# EAGLE library part 6SLX9TQG144 (library faout)
Xilinx FPGA: 6SLX9TQG144
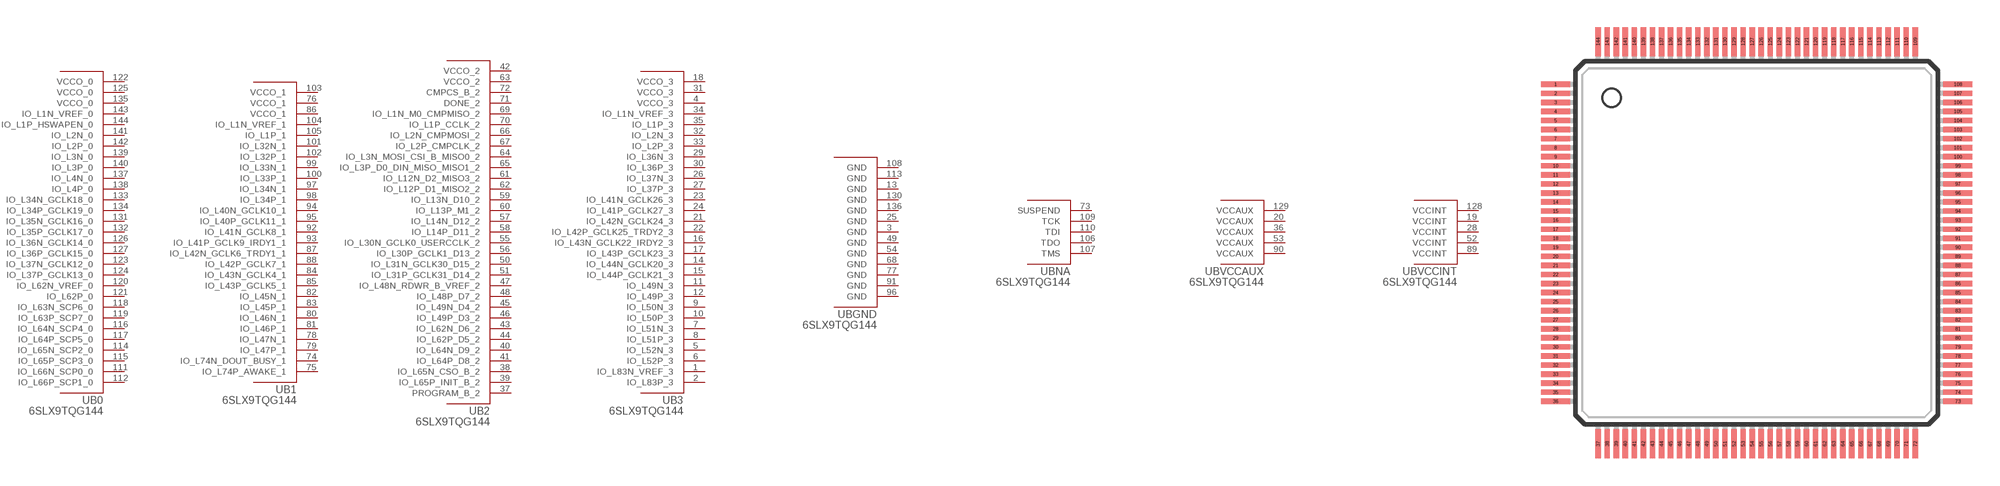
[diagram p1: symbol with the pads of TQ144; footprint TQ144]

Designator prefix U; gates B0=6SLX9TQG144_0 B1=6SLX9TQG144_1 B2=6SLX9TQG144_2 B3=6SLX9TQG144_3 BGND=6SLX9TQG144_GND BNA=6SLX9TQG144_NA BVCCAUX=6SLX9TQG144_VCCAUX BVCCINT=6SLX9TQG144_VCCINT

## 6SLX9TQG144  [TQ144]
1  B3:IO_L83N_VREF_3
2  B3:IO_L83P_3
3  BGND:GND  pwr
4  B3:VCCO_3  in
5  B3:IO_L52N_3
6  B3:IO_L52P_3
7  B3:IO_L51N_3
8  B3:IO_L51P_3
9  B3:IO_L50N_3
10  B3:IO_L50P_3
11  B3:IO_L49N_3
12  B3:IO_L49P_3
13  BGND:GND  pwr
14  B3:IO_L44N_GCLK20_3
15  B3:IO_L44P_GCLK21_3
16  B3:IO_L43N_GCLK22_IRDY2_3
17  B3:IO_L43P_GCLK23_3
18  B3:VCCO_3  in
19  BVCCINT:VCCINT  in
20  BVCCAUX:VCCAUX  in
21  B3:IO_L42N_GCLK24_3
22  B3:IO_L42P_GCLK25_TRDY2_3
23  B3:IO_L41N_GCLK26_3
24  B3:IO_L41P_GCLK27_3
25  BGND:GND  pwr
26  B3:IO_L37N_3
27  B3:IO_L37P_3
28  BVCCINT:VCCINT  in
29  B3:IO_L36N_3
30  B3:IO_L36P_3
31  B3:VCCO_3  in
32  B3:IO_L2N_3
33  B3:IO_L2P_3
34  B3:IO_L1N_VREF_3
35  B3:IO_L1P_3
36  BVCCAUX:VCCAUX  in
37  B2:PROGRAM_B_2  in
38  B2:IO_L65N_CSO_B_2
39  B2:IO_L65P_INIT_B_2
40  B2:IO_L64N_D9_2
41  B2:IO_L64P_D8_2
42  B2:VCCO_2  in
43  B2:IO_L62N_D6_2
44  B2:IO_L62P_D5_2
45  B2:IO_L49N_D4_2
46  B2:IO_L49P_D3_2
47  B2:IO_L48N_RDWR_B_VREF_2
48  B2:IO_L48P_D7_2
49  BGND:GND  pwr
50  B2:IO_L31N_GCLK30_D15_2
51  B2:IO_L31P_GCLK31_D14_2
52  BVCCINT:VCCINT  in
53  BVCCAUX:VCCAUX  in
54  BGND:GND  pwr
55  B2:IO_L30N_GCLK0_USERCCLK_2
56  B2:IO_L30P_GCLK1_D13_2
57  B2:IO_L14N_D12_2
58  B2:IO_L14P_D11_2
59  B2:IO_L13N_D10_2
60  B2:IO_L13P_M1_2
61  B2:IO_L12N_D2_MISO3_2
62  B2:IO_L12P_D1_MISO2_2
63  B2:VCCO_2  in
64  B2:IO_L3N_MOSI_CSI_B_MISO0_2
65  B2:IO_L3P_D0_DIN_MISO_MISO1_2
66  B2:IO_L2N_CMPMOSI_2
67  B2:IO_L2P_CMPCLK_2
68  BGND:GND  pwr
69  B2:IO_L1N_M0_CMPMISO_2
70  B2:IO_L1P_CCLK_2
71  B2:DONE_2
72  B2:CMPCS_B_2
73  BNA:SUSPEND  in
74  B1:IO_L74N_DOUT_BUSY_1
75  B1:IO_L74P_AWAKE_1
76  B1:VCCO_1  in
77  BGND:GND  pwr
78  B1:IO_L47N_1
79  B1:IO_L47P_1
80  B1:IO_L46N_1
81  B1:IO_L46P_1
82  B1:IO_L45N_1
83  B1:IO_L45P_1
84  B1:IO_L43N_GCLK4_1
85  B1:IO_L43P_GCLK5_1
86  B1:VCCO_1  in
87  B1:IO_L42N_GCLK6_TRDY1_1
88  B1:IO_L42P_GCLK7_1
89  BVCCINT:VCCINT  in
90  BVCCAUX:VCCAUX  in
91  BGND:GND  pwr
92  B1:IO_L41N_GCLK8_1
93  B1:IO_L41P_GCLK9_IRDY1_1
94  B1:IO_L40N_GCLK10_1
95  B1:IO_L40P_GCLK11_1
96  BGND:GND  pwr
97  B1:IO_L34N_1
98  B1:IO_L34P_1
99  B1:IO_L33N_1
100  B1:IO_L33P_1
101  B1:IO_L32N_1
102  B1:IO_L32P_1
103  B1:VCCO_1  in
104  B1:IO_L1N_VREF_1
105  B1:IO_L1P_1
106  BNA:TDO  out
107  BNA:TMS  in
108  BGND:GND  pwr
109  BNA:TCK  in
110  BNA:TDI  in
111  B0:IO_L66N_SCP0_0
112  B0:IO_L66P_SCP1_0
113  BGND:GND  pwr
114  B0:IO_L65N_SCP2_0
115  B0:IO_L65P_SCP3_0
116  B0:IO_L64N_SCP4_0
117  B0:IO_L64P_SCP5_0
118  B0:IO_L63N_SCP6_0
119  B0:IO_L63P_SCP7_0
120  B0:IO_L62N_VREF_0
121  B0:IO_L62P_0
122  B0:VCCO_0  in
123  B0:IO_L37N_GCLK12_0
124  B0:IO_L37P_GCLK13_0
125  B0:VCCO_0  in
126  B0:IO_L36N_GCLK14_0
127  B0:IO_L36P_GCLK15_0
128  BVCCINT:VCCINT  in
129  BVCCAUX:VCCAUX  in
130  BGND:GND  pwr
131  B0:IO_L35N_GCLK16_0
132  B0:IO_L35P_GCLK17_0
133  B0:IO_L34N_GCLK18_0
134  B0:IO_L34P_GCLK19_0
135  B0:VCCO_0  in
136  BGND:GND  pwr
137  B0:IO_L4N_0
138  B0:IO_L4P_0
139  B0:IO_L3N_0
140  B0:IO_L3P_0
141  B0:IO_L2N_0
142  B0:IO_L2P_0
143  B0:IO_L1N_VREF_0
144  B0:IO_L1P_HSWAPEN_0

## Footprint TQ144 (pad centres in mm)
TQ144 TQG144
smd 1.6 x 0.3: 1 -11.1,8.75; 2 -11.1,8.25; 3 -11.1,7.75; 4 -11.1,7.25; 5 -11.1,6.75; 6 -11.1,6.25; 7 -11.1,5.75; 8 -11.1,5.25; 9 -11.1,4.75; 10 -11.1,4.25; 11 -11.1,3.75; 12 -11.1,3.25; 13 -11.1,2.75; 14 -11.1,2.25; 15 -11.1,1.75; 16 -11.1,1.25; 17 -11.1,0.75; 18 -11.1,0.25; 19 -11.1,-0.25; 20 -11.1,-0.75; 21 -11.1,-1.25; 22 -11.1,-1.75; 23 -11.1,-2.25; 24 -11.1,-2.75; 25 -11.1,-3.25; 26 -11.1,-3.75; 27 -11.1,-4.25; 28 -11.1,-4.75; 29 -11.1,-5.25; 30 -11.1,-5.75; 31 -11.1,-6.25; 32 -11.1,-6.75; 33 -11.1,-7.25; 34 -11.1,-7.75; 35 -11.1,-8.25; 36 -11.1,-8.75; 73 11.1,-8.75; 74 11.1,-8.25; 75 11.1,-7.75; 76 11.1,-7.25; 77 11.1,-6.75; 78 11.1,-6.25; 79 11.1,-5.75; 80 11.1,-5.25; 81 11.1,-4.75; 82 11.1,-4.25; 83 11.1,-3.75; 84 11.1,-3.25; 85 11.1,-2.75; 86 11.1,-2.25; 87 11.1,-1.75; 88 11.1,-1.25; 89 11.1,-0.75; 90 11.1,-0.25; 91 11.1,0.25; 92 11.1,0.75; 93 11.1,1.25; 94 11.1,1.75; 95 11.1,2.25; 96 11.1,2.75; 97 11.1,3.25; 98 11.1,3.75; 99 11.1,4.25; 100 11.1,4.75; 101 11.1,5.25; 102 11.1,5.75; 103 11.1,6.25; 104 11.1,6.75; 105 11.1,7.25; 106 11.1,7.75; 107 11.1,8.25; 108 11.1,8.75
smd 0.3 x 1.6: 37 -8.75,-11.1; 38 -8.25,-11.1; 39 -7.75,-11.1; 40 -7.25,-11.1; 41 -6.75,-11.1; 42 -6.25,-11.1; 43 -5.75,-11.1; 44 -5.25,-11.1; 45 -4.75,-11.1; 46 -4.25,-11.1; 47 -3.75,-11.1; 48 -3.25,-11.1; 49 -2.75,-11.1; 50 -2.25,-11.1; 51 -1.75,-11.1; 52 -1.25,-11.1; 53 -0.75,-11.1; 54 -0.25,-11.1; 55 0.25,-11.1; 56 0.75,-11.1; 57 1.25,-11.1; 58 1.75,-11.1; 59 2.25,-11.1; 60 2.75,-11.1; 61 3.25,-11.1; 62 3.75,-11.1; 63 4.25,-11.1; 64 4.75,-11.1; 65 5.25,-11.1; 66 5.75,-11.1; 67 6.25,-11.1; 68 6.75,-11.1; 69 7.25,-11.1; 70 7.75,-11.1; 71 8.25,-11.1; 72 8.75,-11.1; 109 8.75,11.1; 110 8.25,11.1; 111 7.75,11.1; 112 7.25,11.1; 113 6.75,11.1; 114 6.25,11.1; 115 5.75,11.1; 116 5.25,11.1; 117 4.75,11.1; 118 4.25,11.1; 119 3.75,11.1; 120 3.25,11.1; 121 2.75,11.1; 122 2.25,11.1; 123 1.75,11.1; 124 1.25,11.1; 125 0.75,11.1; 126 0.25,11.1; 127 -0.25,11.1; 128 -0.75,11.1; 129 -1.25,11.1; 130 -1.75,11.1; 131 -2.25,11.1; 132 -2.75,11.1; 133 -3.25,11.1; 134 -3.75,11.1; 135 -4.25,11.1; 136 -4.75,11.1; 137 -5.25,11.1; 138 -5.75,11.1; 139 -6.25,11.1; 140 -6.75,11.1; 141 -7.25,11.1; 142 -7.75,11.1; 143 -8.25,11.1; 144 -8.75,11.1